# Altium footprint library TG21_Slave_Device_Led.PcbLib: 15 footprints
Each footprint in its own frame and in the unit in brackets; x right, y up, seen from the top. Pads: shape width x height; smd on the part's side, far side on the other; paste and mask are expansions set on the pad; w line width, h text height; cw(c..) or ccw(c..) is an arc to the next point about the centre after c.
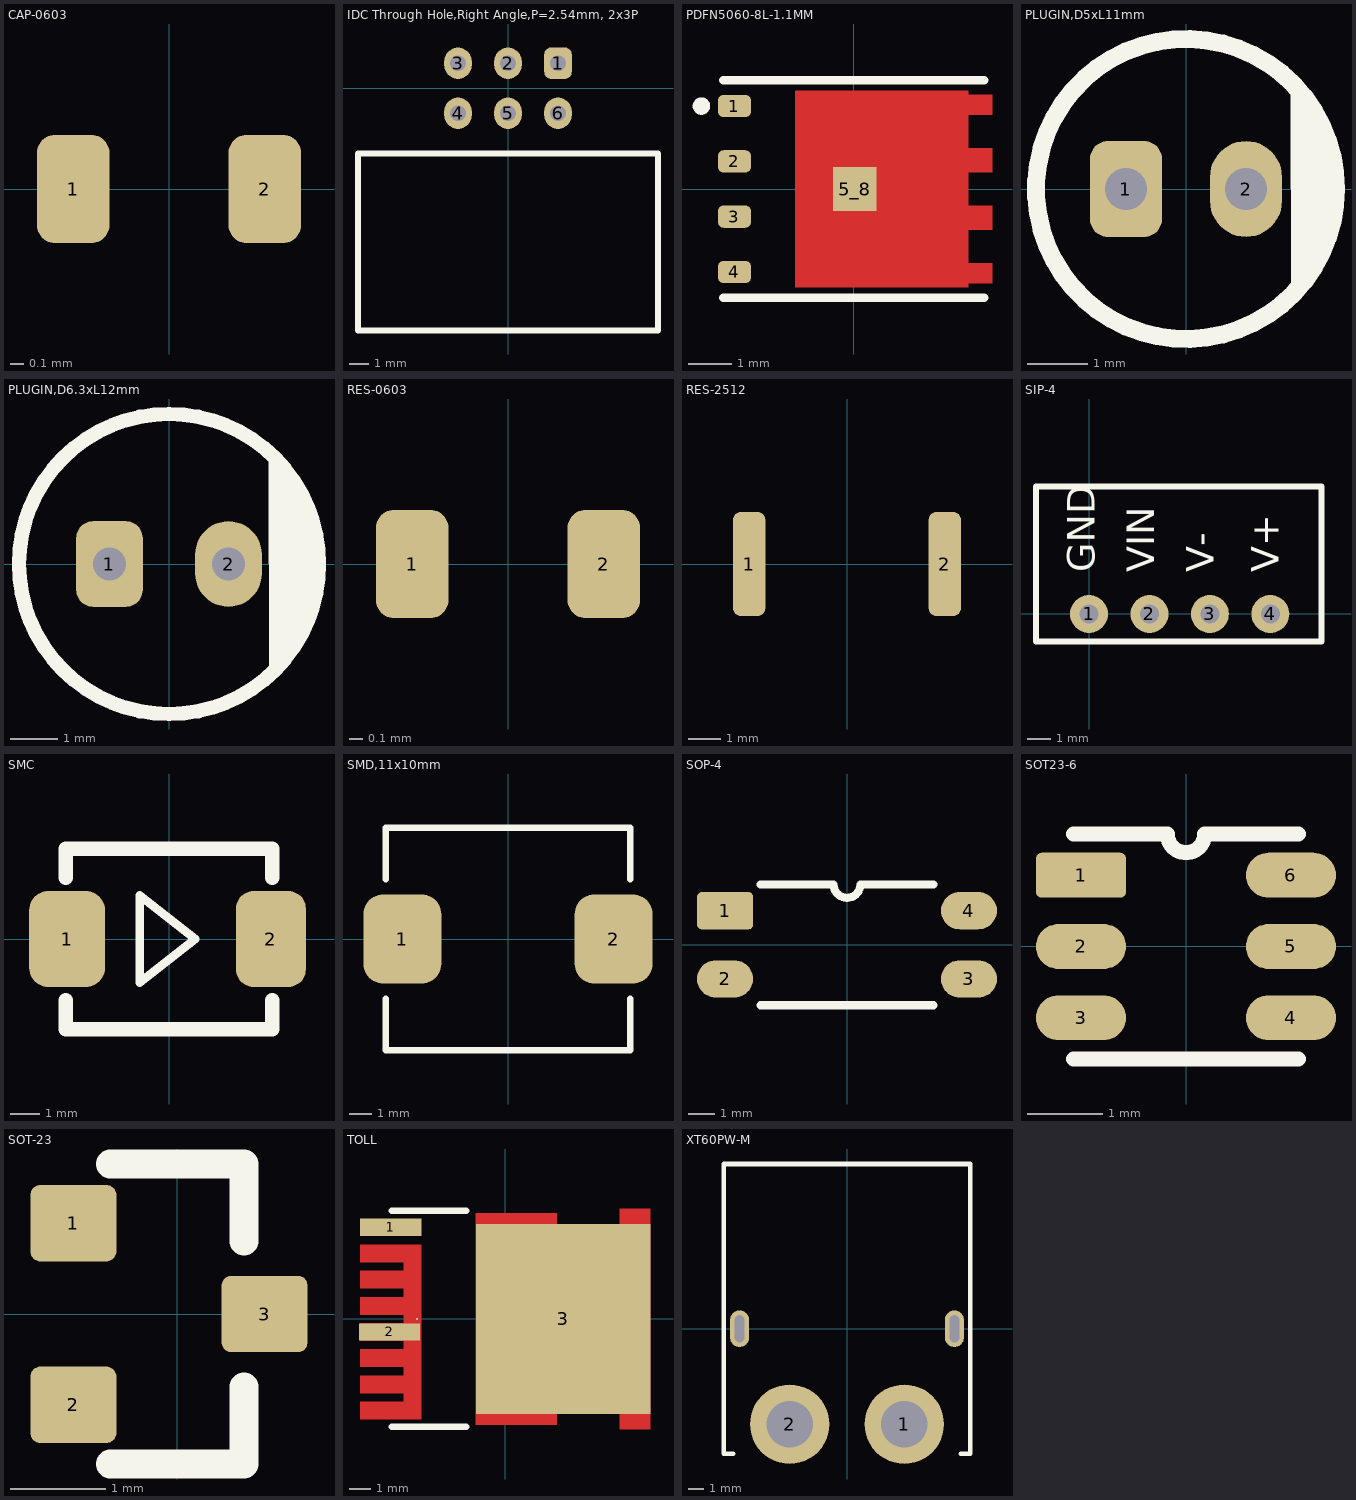
[diagram p0: the footprints below, top view; thin cyan lines are the x and y axes]

## CAP-0603 [mm]
pads (2):
  rrect50% 0.55x0.82 smd: 1(-0.725,0) 2(0.725,0)
3D body "C0603.stp": height 0.8, standoff 0, extent -0.8,-0.4 0.8,0.4

## IDC Through Hole,Right Angle,P=2.54mm, 2x3P [mm]
pads (6):
  rrect50% 1.4x1.6 hole 0.8 mask+0.15: 1(2.54,1.27)
  oval 1.4x1.6 hole 0.8 mask+0.15: 2(0,1.27) 3(-2.54,1.27) 4(-2.54,-1.27) 5(0,-1.27) 6(2.54,-1.27)
Top Overlay:
  lines w0.3: -7.62,-12.31 7.62,-12.31 7.62,-3.31 -7.62,-3.31 -7.62,-12.31
3D body "DS1013-6R_(IDC-6R_CONNFLY)[1].stp": height 8.8, standoff -3, extent -7.71,-12.4 7.71,1.62

## PDFN5060-8L-1.1MM [mm]
pads (5):
  rrect50% 0.76x0.51 smd: 1(-2.74,1.905) 2(-2.74,0.635) 3(-2.74,-0.635) 4(-2.74,-1.905)
  rect 1x1 smd paste-1 mask+0: 5_8(0.025,0)
Top Layer:
  region: 3.18,1.7 2.63,1.7 2.63,0.94 3.18,0.94 3.18,0.38 2.63,0.38 2.63,-0.38 3.18,-0.38 3.18,-0.94 2.63,-0.94 2.63,-1.7 3.18,-1.7 3.18,-2.16 2.63,-2.16 2.63,-2.26 -1.34,-2.26 -1.34,2.26 2.63,2.26 2.63,2.16 3.18,2.16
Top Overlay:
  circle w0.2: c-3.5,1.905 r0.1
  lines w0.2: -3,-2.5 3,-2.5 ; -3,2.5 3,2.5
Top Paste:
  region: 0.35,0.225 -0.93,0.225 -0.93,1.295 0.35,1.295
  region: 2.08,0.225 0.8,0.225 0.8,1.295 2.08,1.295
  region: 2.08,-1.295 0.8,-1.295 0.8,-0.225 2.08,-0.225
  region: 0.35,-1.295 -0.93,-1.295 -0.93,-0.225 0.35,-0.225
  region: 3.18,0.38 2.38,0.38 2.38,0.94 3.18,0.94
  region: 3.18,-2.16 2.38,-2.16 2.38,-1.7 3.18,-1.7
  region: 3.18,-0.94 2.38,-0.94 2.38,-0.38 3.18,-0.38
  region: 3.18,1.7 2.38,1.7 2.38,2.16 3.18,2.16
Top Solder:
  region: 3.29,1.6 2.73,1.6 2.73,1.04 3.29,1.04 3.29,0.28 2.73,0.28 2.73,-0.28 3.29,-0.28 3.29,-1.04 2.73,-1.04 2.73,-1.6 3.29,-1.6 3.29,-2.36 -1.44,-2.36 -1.44,2.36 3.29,2.36
3D body "TSM025NB04CRRLG.STEP": height 1.1, standoff 0, extent -2.975,-2.45 3.025,2.45

## PLUGIN,D5xL11mm [mm]
pads (2):
  rrect50% 1.2x1.6 hole 0.7: 1(-1,0)
  oval 1.2x1.6 hole 0.7: 2(1,0)
Top Overlay:
  circle w0.3: c0,0 r2.5
  region: 1.75,1.785 1.75,-1.785 1.928,-1.611 2.208,-1.198 2.401,-0.738 2.5,-0.249 2.5,0 2.5,0.249 2.401,0.738 2.208,1.198 1.928,1.611
3D body "UES1H2R2MDM1TD.STEP": height 12, standoff -19, extent -2.5,-2.5 2.5,2.5

## PLUGIN,D6.3xL12mm [mm]
pads (2):
  rrect50% 1.4x1.8 hole 0.7: 1(-1.25,0)
  oval 1.4x1.8 hole 0.7: 2(1.25,0)
Top Overlay:
  circle w0.3: c0,0 r3.15
  region: 2.1,2.348 2.1,-2.348 2.224,-2.237 2.446,-1.992 2.642,-1.724 2.808,-1.437 2.943,-1.135 3.046,-0.82 3.115,-0.495 3.15,-0.166 3.15,0 3.15,0.166 3.115,0.495 3.046,0.819 2.943,1.135 2.808,1.437 2.642,1.724 2.446,1.992 2.224,2.237
3D body "Plugin,D6.3xL12mm.stp": height 12, standoff -3.57, extent -3.15,-3.148 3.15,3.148

## RES-0603 [mm]
pads (2):
  rrect50% 0.55x0.82 smd: 1(-0.725,0) 2(0.725,0)
3D body "ERJ-U03F6800V.STEP": height 0.45, standoff 0, extent -0.8,-0.4 0.8,0.4

## RES-2512 [mm]
pads (2):
  rrect50% 1x3.2 smd: 1(-3,0) 2(3,0)
3D body "step_temp.STEP": height 0.65, standoff 0, extent -3.175,-1.55 3.175,1.55

## SIP-4 [mm]
pads (4):
  round 1.6 hole 0.8: 1(0,0) 2(2.54,0) 3(5.08,0) 4(7.62,0)
Top Overlay:
  lines w0.254: -2.23,-1.15 -2.23,5.35 9.77,5.35 9.77,-1.15 -2.23,-1.15
  text "VIN" at 3.149,1.761 h2
  text "V-" at 5.632,1.761 h2
  text "V+" at 8.382,1.761 h2
  text "GND" at 0.633,1.76 h2
3D body "2233669.stp": height 10, standoff -4.26, extent -2.03,-0.925 9.57,5.075

## SMC [mm]
pads (2):
  rrect50% 2.6x3.3 smd: 1(-3.5,0)
  rrect50% 2.4x3.3 smd: 2(3.5,0)
Top Overlay:
  lines w0.3: -1,-1.5 -1,1.5 0.9,0 -1,-1.5
  lines w0.5: -3.55,-2.1 -3.55,-3.1 3.55,-3.1 3.55,-2.1 ; -3.55,2.1 -3.55,3.1 3.55,3.1 3.55,2.1
3D body "SMC.step": height 2.27, standoff 0, extent -3.97,-2.953 3.97,2.953

## SMD,11x10mm [mm]
pads (2):
  rrect50% 3.5x4 smd: 1(-4.75,0) 2(4.75,0)
Top Overlay:
  lines w0.3: -5.5,-2.7 -5.5,-5 5.5,-5 5.5,-2.7 ; -5.5,2.7 -5.5,5 5.5,5 5.5,2.7
3D body "PSPMAA1082T.stp": height 7.9, standoff -0.3, extent -5.5,-5 5.5,5

## SOP-4 [mm]
pads (4):
  rrect25% 2.09x1.39 smd: 1(-4.54,1.27)
  oval 2.09x1.39 smd: 2(-4.54,-1.27) 3(4.54,-1.27) 4(4.54,1.27)
Top Overlay:
  lines w0.3: -3.225,-2.25 3.225,-2.25 ; -3.225,2.25 -0.5,2.25 ccw(c0,2.25) 0.5,2.24 3.225,2.25
3D body "VOT8024AB-T2.STEP": height 3.78, standoff -0.08, extent -5.08,-2.3 5.08,2.3

## SOT23-6 [mm]
pads (6):
  rrect25% 1.2x0.6 smd: 1(-1.4,0.95)
  oval 1.2x0.6 smd: 2(-1.4,0) 3(-1.4,-0.95) 4(1.4,-0.95) 5(1.4,0) 6(1.4,0.95)
Top Overlay:
  lines w0.2: -1.5,-1.5 1.5,-1.5 ; -1.5,1.5 -0.25,1.5 ccw(c0,1.5) 0.25,1.5 1.5,1.5
3D body "step_temp.STEP": height 1.45, standoff 0, extent -1.4,-1.45 1.4,1.45

## SOT-23 [mm]
pads (3):
  rrect25% 0.9x0.8 smd: 1(-1.085,0.95) 2(-1.085,-0.95) 3(0.915,0)
Top Overlay:
  lines w0.3: -0.7,-1.57 0.7,-1.57 0.7,-0.762 ; -0.7,1.57 0.7,1.57 0.7,0.762
3D body "SOT-23.STEP": height 1.1, standoff 0, extent -1.25,-1.5 1.25,1.5

## TOLL [mm]
pads (5):
  rect 2.8x0.8 smd: 1(-5.25,4.2) 2(-5.3,-0.6)
  rect 0.1x0.1 smd paste-1 mask+0: 2(-4.05,0) 3(0,0)
  rect 8x8.7 smd: 3(2.65,0)
Top Layer:
  region: -3.85,-4.6 -6.65,-4.6 -6.65,-3.8 -4.65,-3.8 -4.65,-3.4 -6.65,-3.4 -6.65,-2.6 -4.65,-2.6 -4.65,-2.2 -6.65,-2.2 -6.65,-1.4 -4.65,-1.4 -4.65,-1 -6.65,-1 -6.65,-0.2 -4.65,-0.2 -4.65,0.2 -6.65,0.2 -6.65,1 -4.65,1 -4.65,1.4 -6.65,1.4 -6.65,2.2 -4.65,2.2 -4.65,2.6 -6.65,2.6 -6.65,3.4 -3.85,3.4
  region: 6.65,-5.05 5.25,-5.05 5.25,-4.35 2.35,-4.35 2.35,-4.85 -1.35,-4.85 -1.35,4.85 2.35,4.85 2.35,4.35 5.25,4.35 5.25,5.05 6.65,5.05
Top Overlay:
  lines w0.3: -5.2,-4.95 -1.8,-4.95 ; -5.2,4.95 -1.8,4.95
Top Paste:
  region: -3.85,2.6 -6.65,2.6 -6.65,3.4 -3.85,3.4
  region: -3.85,1.4 -6.65,1.4 -6.65,2.2 -3.85,2.2
  region: -3.85,0.2 -6.65,0.2 -6.65,1 -3.85,1
  region: -3.85,-1 -6.65,-1 -6.65,-0.2 -3.85,-0.2
  region: -3.85,-2.2 -6.65,-2.2 -6.65,-1.4 -3.85,-1.4
  region: -3.85,-3.4 -6.65,-3.4 -6.65,-2.6 -3.85,-2.6
  region: -3.85,-4.6 -6.65,-4.6 -6.65,-3.8 -3.85,-3.8
  region: 3.475,0.385 1.825,0.385 1.825,1.795 3.475,1.795
  region: 3.475,2.565 1.825,2.565 1.825,3.975 3.475,3.975
  region: 3.475,-1.795 1.825,-1.795 1.825,-0.385 3.475,-0.385
  region: 3.475,-3.975 1.825,-3.975 1.825,-2.565 3.475,-2.565
  region: 0.805,0.385 -0.845,0.385 -0.845,1.795 0.805,1.795
  region: 0.805,2.565 -0.845,2.565 -0.845,3.975 0.805,3.975
  region: 0.805,-1.795 -0.845,-1.795 -0.845,-0.385 0.805,-0.385
  region: 0.805,-3.975 -0.845,-3.975 -0.845,-2.565 0.805,-2.565
  region: 6.145,0.385 4.495,0.385 4.495,1.795 6.145,1.795
  region: 6.145,2.565 4.495,2.565 4.495,3.975 6.145,3.975
  region: 6.145,-1.795 4.495,-1.795 4.495,-0.385 6.145,-0.385
  region: 6.145,-3.975 4.495,-3.975 4.495,-2.565 6.145,-2.565
Top Solder:
  region: -3.75,-4.7 -6.75,-4.7 -6.75,-3.7 -4.75,-3.7 -4.75,-3.5 -6.75,-3.5 -6.75,-2.5 -4.75,-2.5 -4.75,-2.3 -6.75,-2.3 -6.75,-1.3 -4.75,-1.3 -4.75,-1.1 -6.75,-1.1 -6.75,-0.1 -4.75,-0.1 -4.75,0.1 -6.75,0.1 -6.75,1.1 -4.75,1.1 -4.75,1.3 -6.75,1.3 -6.75,2.3 -4.75,2.3 -4.75,2.5 -6.75,2.5 -6.75,3.5 -3.75,3.5
  region: 6.75,-5.15 5.15,-5.15 5.15,-4.45 2.45,-4.45 2.45,-4.95 -1.45,-4.95 -1.45,4.95 2.45,4.95 2.45,4.45 5.15,4.45 5.15,5.15 6.75,5.15
3D body "step_temp.STEP": height 2.31, standoff 0, extent -5.79,-4.95 5.89,4.95

## XT60PW-M [mm]
pads (4):
  round 5 hole 2.9 mask+0.5: 1(3.6,-6) 2(-3.6,-6)
  oval 1.2x2.3 hole 0.6 slot 1.7 at 90 deg: ""(-6.75,0) ""(6.75,0)
Top Overlay:
  lines w0.3: -7.15,-7.85 -7.75,-7.85 -7.75,10.35 7.75,10.35 7.75,-7.85 7.15,-7.85
3D body "XT60PW-M.STEP": height 8.4, standoff -2.2, extent -7.75,-7.85 7.75,10.35